# EAGLE library part 3X6 (library Drone_Connectors)
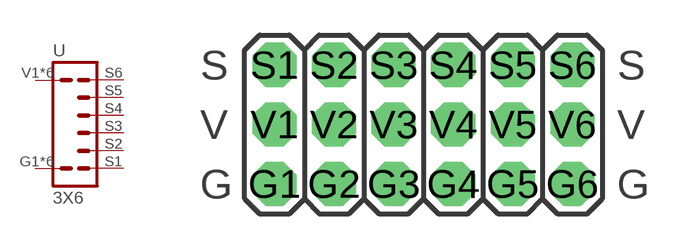
[diagram p2: symbol with the pads of 3X6; footprint 3X6]

Designator prefix -

## 3X6  [3X6]
G1  G  pwr
G2  G  pwr
G3  G  pwr
G4  G  pwr
G5  G  pwr
G6  G  pwr
S1  3
S2  4
S3  5
S4  6
S5  7
S6  8
V1  V  pwr
V2  V  pwr
V3  V  pwr
V4  V  pwr
V5  V  pwr
V6  V  pwr

## Footprint 3X6 (pad centres in mm)
drill 1.016 pad 1.88 octagon: G1 -6.35,-2.54; G2 -3.81,-2.54; G3 -1.27,-2.54; G4 1.27,-2.54; G5 3.81,-2.54; G6 6.35,-2.54; S1 -6.35,2.54; S2 -3.81,2.54; S3 -1.27,2.54; S4 1.27,2.54; S5 3.81,2.54; S6 6.35,2.54; V1 -6.35,0; V2 -3.81,0; V3 -1.27,0; V4 1.27,0; V5 3.81,0; V6 6.35,0